# EAGLE library part E19 (library E19)
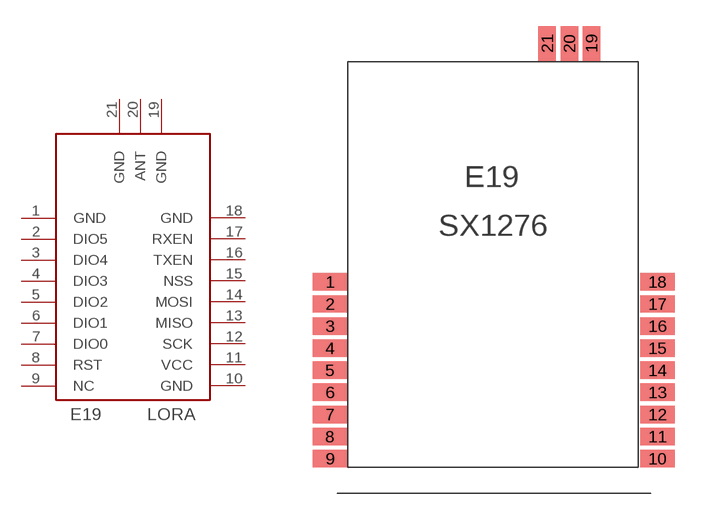
[diagram p0: symbol with the pads of E19; footprint E19]

Designator prefix U

## E19  [E19]
1  GND  pwr
2  DIO5
3  DIO4
4  DIO3
5  DIO2
6  DIO1
7  DIO0
8  RST
9  NC
10  GND  pwr
11  VCC  pwr
12  SCK
13  MISO
14  MOSI
15  NSS
16  TXEN
17  RXEN
18  GND
19  GND  pwr
20  ANT
21  GND  pwr

## Footprint E19 (pad centres in mm)
smd 2 x 1: 1 -0.41,12.16; 2 -0.41,10.89; 3 -0.41,9.62; 4 -0.41,8.35; 5 -0.41,7.08; 6 -0.41,5.81; 7 -0.41,4.54; 8 -0.41,3.27; 9 -0.41,2; 10 18.39,2; 11 18.39,3.27; 12 18.39,4.54; 13 18.39,5.81; 14 18.39,7.08; 15 18.39,8.35; 16 18.39,9.62; 17 18.39,10.89; 18 18.39,12.16
smd 1 x 2: 19 14.6,25.86; 20 13.33,25.86; 21 12.06,25.86